# EAGLE library part INA332 (library Base)
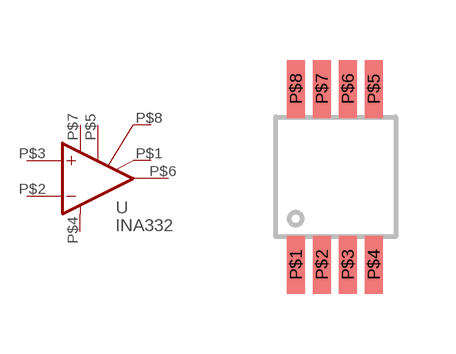
[diagram p2: symbol with the pads of INA332; footprint INA332]

Designator prefix -

## INA332  [INA332]
P$1  RG  pas
P$2  -IN  in
P$3  +IN  in
P$4  V-  pwr
P$5  VREF  pas
P$6  OUT  out
P$7  V+  pwr
P$8  SHDN  pas

## Footprint INA332 (pad centres in mm)
smd 0.45 x 1.45: P$1 0,-2.2; P$2 0.65,-2.2; P$3 1.3,-2.2; P$4 1.95,-2.2; P$5 1.95,2.2; P$6 1.3,2.2; P$7 0.65,2.2; P$8 0,2.2